# Altium footprint library PCB AMS625.PcbLib: 27 footprints (part 1 of 2)
Each footprint in its own frame and in the unit in brackets; x right, y up, seen from the top. Pads: shape width x height; smd on the part's side, far side on the other; paste and mask are expansions set on the pad; w line width, h text height; cw(c..) or ccw(c..) is an arc to the next point about the centre after c.
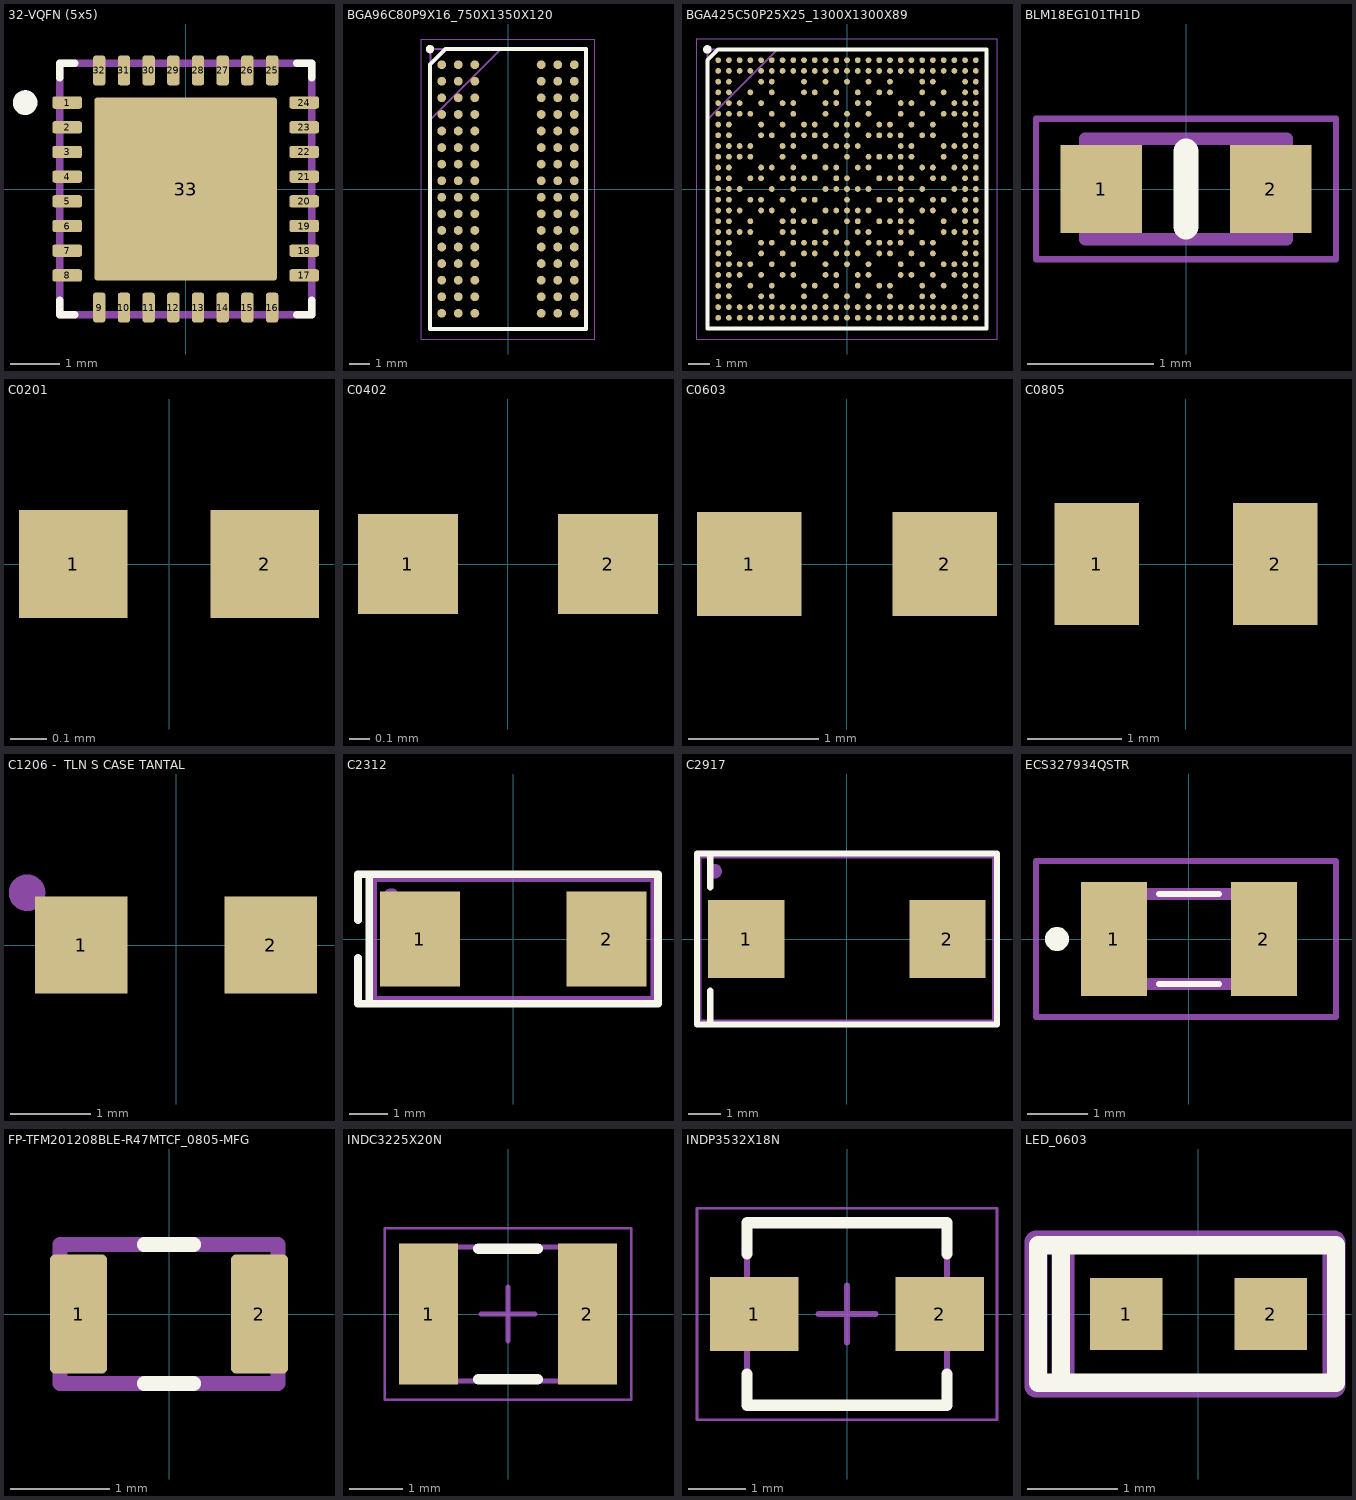
[diagram p0: the footprints below, top view; thin cyan lines are the x and y axes]

## 32-VQFN (5x5) [mm]
pads (33):
  rrect40% 0.6x0.25 smd paste+0 mask+0: 1(-2.4,1.75) 2(-2.4,1.25) 3(-2.4,0.75) 4(-2.4,0.25) 5(-2.4,-0.25) 6(-2.4,-0.75) 7(-2.4,-1.25) 8(-2.4,-1.75) 17(2.4,-1.75) 18(2.4,-1.25) 19(2.4,-0.75) 20(2.4,-0.25) 21(2.4,0.25) 22(2.4,0.75) 23(2.4,1.25) 24(2.4,1.75)
  rrect40% 0.25x0.6 smd paste+0 mask+0: 9(-1.75,-2.4) 10(-1.25,-2.4) 11(-0.75,-2.4) 12(-0.25,-2.4) 13(0.25,-2.4) 14(0.75,-2.4) 15(1.25,-2.4) 16(1.75,-2.4) 25(1.75,2.4) 26(1.25,2.4) 27(0.75,2.4) 28(0.25,2.4) 29(-0.25,2.4) 30(-0.75,2.4) 31(-1.25,2.4) 32(-1.75,2.4)
  rrect3% 3.7x3.7 smd paste-1000 mask+0: 33(0,0)
Top Overlay:
  circle w0.25: c-3.25,1.75 r0.125
  lines w0.15: -2.55,-2.25 -2.55,-2.55 -2.25,-2.55 ; -2.55,2.25 -2.55,2.55 -2.25,2.55 ; 2.25,-2.55 2.55,-2.55 2.55,-2.25 ; 2.25,2.55 2.55,2.55 2.55,2.25
Top Paste:
  drawing of 9 lines, arcs and shapes, not listed
Mechanical 13:
  lines w0.15: -2.55,-2.55 -2.55,2.55 2.55,2.55 2.55,-2.55 -2.55,-2.55
Mechanical 29:
  text ".Designator" at -3.556,-0.381 h1.52
3D body "IC_TPS6521901RHBR_VQFN32.STEP": height 1, standoff 0, extent -2.503,-2.503 2.503,2.503

## BGA96C80P9X16_750X1350X120 [mm]
pads (96):
  round 0.426 smd mask+0.102: A1(-3.2,6) A2(-2.4,6) A3(-1.6,6) A7(1.6,6) A8(2.4,6) A9(3.2,6) B1(-3.2,5.2) B2(-2.4,5.2) B3(-1.6,5.2) B7(1.6,5.2) B8(2.4,5.2) B9(3.2,5.2) C1(-3.2,4.4) C2(-2.4,4.4) C3(-1.6,4.4) C7(1.6,4.4) C8(2.4,4.4) C9(3.2,4.4) D1(-3.2,3.6) D2(-2.4,3.6) D3(-1.6,3.6) D7(1.6,3.6) D8(2.4,3.6) D9(3.2,3.6) E1(-3.2,2.8) E2(-2.4,2.8) E3(-1.6,2.8) E7(1.6,2.8) E8(2.4,2.8) E9(3.2,2.8) F1(-3.2,2) F2(-2.4,2) F3(-1.6,2) F7(1.6,2) F8(2.4,2) F9(3.2,2) G1(-3.2,1.2) G2(-2.4,1.2) G3(-1.6,1.2) G7(1.6,1.2) G8(2.4,1.2) G9(3.2,1.2) H1(-3.2,0.4) H2(-2.4,0.4) H3(-1.6,0.4) H7(1.6,0.4) H8(2.4,0.4) H9(3.2,0.4) J1(-3.2,-0.4) J2(-2.4,-0.4) J3(-1.6,-0.4) J7(1.6,-0.4) J8(2.4,-0.4) J9(3.2,-0.4) K1(-3.2,-1.2) K2(-2.4,-1.2) K3(-1.6,-1.2) K7(1.6,-1.2) K8(2.4,-1.2) K9(3.2,-1.2) L1(-3.2,-2) L2(-2.4,-2) L3(-1.6,-2) L7(1.6,-2) L8(2.4,-2) L9(3.2,-2) M1(-3.2,-2.8) M2(-2.4,-2.8) M3(-1.6,-2.8) M7(1.6,-2.8) M8(2.4,-2.8) M9(3.2,-2.8) N1(-3.2,-3.6) N2(-2.4,-3.6) N3(-1.6,-3.6) N7(1.6,-3.6) N8(2.4,-3.6) N9(3.2,-3.6) P1(-3.2,-4.4) P2(-2.4,-4.4) P3(-1.6,-4.4) P7(1.6,-4.4) P8(2.4,-4.4) P9(3.2,-4.4) R1(-3.2,-5.2) R2(-2.4,-5.2) R3(-1.6,-5.2) R7(1.6,-5.2) R8(2.4,-5.2) R9(3.2,-5.2) T1(-3.2,-6) T2(-2.4,-6) T3(-1.6,-6) T7(1.6,-6) T8(2.4,-6) T9(3.2,-6)
Top Overlay:
  circle w0.2: c-3.763,6.75 r0.1
  lines w0.2: -3.763,-6.75 3.763,-6.75 3.763,6.75 -3.013,6.75 -3.763,6 -3.763,-6.75
Mechanical 13:
  lines w0.1: -3.75,3.35 -0.35,6.75 ; -3.75,-6.75 3.75,-6.75 3.75,6.75 -3.75,6.75 -3.75,-6.75
Mechanical 15:
  lines w0.05: -4.191,-7.239 4.191,-7.239 4.191,7.239 -4.191,7.239 -4.191,-7.239
Mechanical 29:
  text ".Designator" at -3.556,-0.381 h1.52
3D body "MT40A512M16LY-075_E.stp": height 1.2, standoff 0, extent -3.75,-6.75 3.75,6.75

## BGA425C50P25X25_1300X1300X89 [mm]
pads (425):
  round 0.27 smd mask+0.05: A1(-6,6) A2(-5.5,6) A3(-5,6) A4(-4.5,6) A5(-4,6) A6(-3.5,6) A7(-3,6) A8(-2.5,6) A9(-2,6) A10(-1.5,6) A11(-1,6) A12(-0.5,6) A13(0,6) A14(0.5,6) A15(1,6) A16(1.5,6) A17(2,6) A18(2.5,6) A19(3,6) A20(3.5,6) A21(4,6) A22(4.5,6) A23(5,6) A24(5.5,6) A25(6,6) AA1(-6,-4) AA2(-5.5,-4) AA3(-5,-4) AA5(-4,-4) AA7(-3,-4) AA8(-2.5,-4) AA11(-1,-4) AA12(-0.5,-4) AA14(0.5,-4) AA15(1,-4) AA18(2.5,-4) AA19(3,-4) AA21(4,-4) AA23(5,-4) AA24(5.5,-4) AA25(6,-4) AB1(-6,-4.5) AB2(-5.5,-4.5) AB4(-4.5,-4.5) AB6(-3.5,-4.5) AB9(-2,-4.5) AB10(-1.5,-4.5) AB12(-0.5,-4.5) AB14(0.5,-4.5) AB16(1.5,-4.5) AB17(2,-4.5) AB20(3.5,-4.5) AB22(4.5,-4.5) AB24(5.5,-4.5) AB25(6,-4.5) AC1(-6,-5) AC2(-5.5,-5) AC5(-4,-5) AC6(-3.5,-5) AC9(-2,-5) AC11(-1,-5) AC13(0,-5) AC15(1,-5) AC17(2,-5) AC20(3.5,-5) AC21(4,-5) AC24(5.5,-5) AC25(6,-5) AD1(-6,-5.5) AD2(-5.5,-5.5) AD3(-5,-5.5) AD4(-4.5,-5.5) AD5(-4,-5.5) AD6(-3.5,-5.5) AD7(-3,-5.5) AD8(-2.5,-5.5) AD9(-2,-5.5) AD10(-1.5,-5.5) AD11(-1,-5.5) AD12(-0.5,-5.5) AD13(0,-5.5) AD14(0.5,-5.5) AD15(1,-5.5) AD16(1.5,-5.5) AD17(2,-5.5) AD18(2.5,-5.5) AD19(3,-5.5) AD20(3.5,-5.5) AD21(4,-5.5) AD22(4.5,-5.5) AD23(5,-5.5) AD24(5.5,-5.5) AD25(6,-5.5) AE1(-6,-6) AE2(-5.5,-6) AE3(-5,-6) AE4(-4.5,-6) AE5(-4,-6) AE6(-3.5,-6) AE7(-3,-6) AE8(-2.5,-6) AE9(-2,-6) AE10(-1.5,-6) AE11(-1,-6) AE12(-0.5,-6) AE13(0,-6) AE14(0.5,-6) AE15(1,-6) AE16(1.5,-6) AE17(2,-6) AE18(2.5,-6) AE19(3,-6) AE20(3.5,-6) AE21(4,-6) AE22(4.5,-6) AE23(5,-6) AE24(5.5,-6) AE25(6,-6) B1(-6,5.5) B2(-5.5,5.5) B3(-5,5.5) B4(-4.5,5.5) B5(-4,5.5) B6(-3.5,5.5) B7(-3,5.5) B8(-2.5,5.5) B9(-2,5.5) B10(-1.5,5.5) B11(-1,5.5) B12(-0.5,5.5) B13(0,5.5) B14(0.5,5.5) B15(1,5.5) B16(1.5,5.5) B17(2,5.5) B18(2.5,5.5) B19(3,5.5) B20(3.5,5.5) B21(4,5.5) B22(4.5,5.5) B23(5,5.5) B24(5.5,5.5) B25(6,5.5) C1(-6,5) C2(-5.5,5) C5(-4,5) C6(-3.5,5) C9(-2,5) C11(-1,5) C13(0,5) C15(1,5) C17(2,5) C20(3.5,5) C21(4,5) C24(5.5,5) C25(6,5) D1(-6,4.5) D2(-5.5,4.5) D4(-4.5,4.5) D6(-3.5,4.5) D9(-2,4.5) D10(-1.5,4.5) D12(-0.5,4.5) D14(0.5,4.5) D16(1.5,4.5) D17(2,4.5) D20(3.5,4.5) D22(4.5,4.5) D24(5.5,4.5) D25(6,4.5) E1(-6,4) E2(-5.5,4) E3(-5,4) E5(-4,4) E7(-3,4) E8(-2.5,4) E11(-1,4) E12(-0.5,4) E14(0.5,4) E15(1,4) E18(2.5,4) E19(3,4) E21(4,4) E23(5,4) E24(5.5,4) E25(6,4) F1(-6,3.5) F2(-5.5,3.5) F3(-5,3.5) F4(-4.5,3.5) F6(-3.5,3.5) F8(-2.5,3.5) F11(-1,3.5) F13(0,3.5) F15(1,3.5) F18(2.5,3.5) F20(3.5,3.5) F22(4.5,3.5) F23(5,3.5) F24(5.5,3.5) F25(6,3.5) G1(-6,3) G2(-5.5,3) G5(-4,3) G7(-3,3) G9(-2,3) G10(-1.5,3) G12(-0.5,3) G13(0,3) G14(0.5,3) G16(1.5,3) G17(2,3) G19(3,3) G21(4,3) G24(5.5,3) G25(6,3) H1(-6,2.5) H2(-5.5,2.5) H5(-4,2.5) H6(-3.5,2.5) H8(-2.5,2.5) H9(-2,2.5) H10(-1.5,2.5) H11(-1,2.5) H13(0,2.5) H15(1,2.5) H16(1.5,2.5) H17(2,2.5) H18(2.5,2.5) H20(3.5,2.5) H21(4,2.5) H24(5.5,2.5) H25(6,2.5) J1(-6,2) J2(-5.5,2) J3(-5,2) J4(-4.5,2) J7(-3,2) J8(-2.5,2) J11(-1,2) J12(-0.5,2) J13(0,2) J14(0.5,2) J18(2.5,2) J19(3,2) J22(4.5,2) J23(5,2) J24(5.5,2) J25(6,2) K1(-6,1.5) K2(-5.5,1.5) K3(-5,1.5) K4(-4.5,1.5) K7(-3,1.5) K9(-2,1.5) K10(-1.5,1.5) K13(0,1.5) K15(1,1.5) K16(1.5,1.5) K17(2,1.5) K18(2.5,1.5) K19(3,1.5) K22(4.5,1.5) K24(5.5,1.5) K25(6,1.5) L1(-6,1) L2(-5.5,1) L5(-4,1) L6(-3.5,1) L8(-2.5,1) L11(-1,1) L12(-0.5,1) L14(0.5,1) L15(1,1) L18(2.5,1) L20(3.5,1) L21(4,1) L23(5,1) L24(5.5,1) L25(6,1) M1(-6,0.5) M2(-5.5,0.5) M4(-4.5,0.5) M5(-4,0.5) M7(-3,0.5) M8(-2.5,0.5) M9(-2,0.5) M10(-1.5,0.5) M12(-0.5,0.5) M13(0,0.5) M16(1.5,0.5) M17(2,0.5) M18(2.5,0.5) M19(3,0.5) M21(4,0.5) M22(4.5,0.5) M24(5.5,0.5) M25(6,0.5) N1(-6,0) N2(-5.5,0) N3(-5,0) N6(-3.5,0) N8(-2.5,0) N11(-1,0) N12(-0.5,0) N13(0,0) N14(0.5,0) N15(1,0) N18(2.5,0) N20(3.5,0) N23(5,0) N24(5.5,0) N25(6,0) P1(-6,-0.5) P2(-5.5,-0.5) P4(-4.5,-0.5) P5(-4,-0.5) P7(-3,-0.5) P9(-2,-0.5) P10(-1.5,-0.5) P13(0,-0.5) P16(1.5,-0.5) P17(2,-0.5) P18(2.5,-0.5) P19(3,-0.5) P21(4,-0.5) P22(4.5,-0.5) P24(5.5,-0.5) P25(6,-0.5) R1(-6,-1) R2(-5.5,-1) R3(-5,-1) R5(-4,-1) R6(-3.5,-1) R8(-2.5,-1) R11(-1,-1) R12(-0.5,-1) R13(0,-1) R14(0.5,-1) R15(1,-1) R18(2.5,-1) R20(3.5,-1) R21(4,-1) R23(5,-1) R24(5.5,-1) R25(6,-1) T1(-6,-1.5) T2(-5.5,-1.5) T4(-4.5,-1.5) T7(-3,-1.5) T8(-2.5,-1.5) T9(-2,-1.5) T10(-1.5,-1.5) T13(0,-1.5) T14(0.5,-1.5) T16(1.5,-1.5) T17(2,-1.5) T18(2.5,-1.5) T19(3,-1.5) T22(4.5,-1.5) T24(5.5,-1.5) T25(6,-1.5) U1(-6,-2) U2(-5.5,-2) U3(-5,-2) U4(-4.5,-2) U7(-3,-2) U8(-2.5,-2) U11(-1,-2) U12(-0.5,-2) U14(0.5,-2) U15(1,-2) U18(2.5,-2) U19(3,-2) U22(4.5,-2) U23(5,-2) U24(5.5,-2) U25(6,-2) V1(-6,-2.5) V2(-5.5,-2.5) V5(-4,-2.5) V6(-3.5,-2.5) V8(-2.5,-2.5) V9(-2,-2.5) V10(-1.5,-2.5) V11(-1,-2.5) V13(0,-2.5) V15(1,-2.5) V16(1.5,-2.5) V17(2,-2.5) V18(2.5,-2.5) V20(3.5,-2.5) V21(4,-2.5) V24(5.5,-2.5) V25(6,-2.5) W1(-6,-3) W2(-5.5,-3) W5(-4,-3) W7(-3,-3) W9(-2,-3) W10(-1.5,-3) W12(-0.5,-3) W13(0,-3) W14(0.5,-3) W16(1.5,-3) W17(2,-3) W19(3,-3) W21(4,-3) W24(5.5,-3) W25(6,-3) Y1(-6,-3.5) Y2(-5.5,-3.5) Y3(-5,-3.5) Y4(-4.5,-3.5) Y6(-3.5,-3.5) Y8(-2.5,-3.5) Y11(-1,-3.5) Y13(0,-3.5) Y15(1,-3.5) Y18(2.5,-3.5) Y20(3.5,-3.5) Y22(4.5,-3.5) Y23(5,-3.5) Y24(5.5,-3.5) Y25(6,-3.5)
Top Overlay:
  circle w0.2: c-6.5,6.5 r0.1
  lines w0.2: -6.5,-6.5 6.5,-6.5 6.5,6.5 -6,6.5 -6.5,6 -6.5,-6.5
Mechanical 13:
  lines w0.1: -6.5,3.225 -3.225,6.5 ; -6.5,-6.5 6.5,-6.5 6.5,6.5 -6.5,6.5 -6.5,-6.5
Mechanical 15:
  lines w0.05: -6.985,-6.985 6.985,-6.985 6.985,6.985 -6.985,6.985 -6.985,-6.985
Mechanical 29:
  text ".Designator" at -3.556,-0.381 h1.52
3D body "AM6254ATCGGAALW.stp": height 0.89, standoff 0, extent -6.5,-6.5 6.5,6.5

## BLM18EG101TH1D [mm]
pads (2):
  rect 0.65x0.7 smd: 1(-0.675,0) 2(0.675,0)
Top Overlay:
  lines w0.2: 0,-0.3 0,0.3
Mechanical 13:
  lines w0.1: -0.8,-0.4 0.8,-0.4 0.8,0.4 -0.8,0.4 -0.8,-0.4
Mechanical 15:
  lines w0.05: -1.194,-0.559 1.194,-0.559 1.194,0.559 -1.194,0.559 -1.194,-0.559
Mechanical 29:
  text ".Designator" at -2.286,-0.254 h1
3D body "BLM18SG260TN1D.stp": height 0.5, standoff 0, extent -0.8,-0.4 0.8,0.4

## C0201 [mm]
pads (2):
  rect 0.3x0.3 smd mask+0.04: 1(-0.265,0) 2(0.265,0)
Mechanical 29:
  text ".Designator" at -2.286,-0.254 h1
3D body "C0201.step": height 0.3, standoff 0, extent -0.3,-0.15 0.3,0.15

## C0402 [mm]
pads (2):
  rect 0.5x0.5 smd: 1(-0.5,0) 2(0.5,0)
Mechanical 29:
  text ".Designator" at -2.35,-0.25 h1
3D body "CAPC1005X56N EIA 0402.step": height 0.56, standoff 0, extent -0.5,-0.25 0.5,0.25

## C0603 [mm]
pads (2):
  rect 0.8x0.8 smd: 1(-0.75,0) 2(0.75,0)
Mechanical 29:
  text ".Designator" at -2.35,-0.26 h1
3D body "C0603.step": height 0.79, standoff 0, extent -0.8,-0.425 0.8,0.435
3D body "C0603.step": height 0.95, standoff 0.15, extent -0.8,-0.425 0.8,0.435

## C0805 [mm]
pads (2):
  rect 0.9x1.3 smd: 1(-0.95,0) 2(0.95,0)
Mechanical 29:
  text ".Designator" at -2.28,-0.27 h1
3D body "CAPC2012X95N EIA 0805.step": height 1.5, standoff 0.55, extent -1,-0.6 1,0.6
3D body "CAPC2012X95N EIA 0805.step": height 0.95, standoff 0, extent -1,-0.6 1,0.6

## C1206 -  TLN S CASE TANTAL [mm]
pads (2):
  rect 1.15x1.2 smd: 1(-1.175,0) 2(1.175,0)
Mechanical 16:
  circle w0.254: c-1.85,0.65 r0.1
Mechanical 29:
  text ".Designator" at -7.05,-0.72 h3
3D body: height 1.2, standoff 0, extent -1.6,-0.8 1.6,0.8
3D body: height 1.21, standoff 1.2, extent -1.6,-0.8 -0.9,0.8

## C2312 [mm]
pads (2):
  rect 2.1x2.5 smd mask+0.09: 1(-2.45,0) 2(2.45,0)
Top Overlay:
  lines w0.2: -4.075,-0.5 -4.075,-1.7 3.8,-1.7 3.8,1.7 -4.075,1.7 -4.075,0.5 ; -3.775,-1.7 -3.775,1.7
Mechanical 16:
  circle w0.254: c-3.2,1.1 r0.1
  lines w0.2: -3.675,-1.6 -3.675,1.6 3.7,1.6 3.7,-1.6 -3.675,-1.6
Mechanical 29:
  text ".Designator" at -6.97,-0.72 h3
3D body "Tantalum Capacitor Case C.STEP": height 2.68, standoff -0.01, extent -3.093,-1.605 3.093,1.6
3D body: height 2.7, standoff 2.6, extent -2.4,-1.5 2.9,1.5

## C2917 [mm]
pads (2):
  rect 2.37x2.43 smd: 1(-3.12,0) 2(3.12,0)
Top Overlay:
  lines w0.2: -4.24,-2.65 -4.24,-1.6 ; -4.24,1.6 -4.24,2.65 ; -4.645,-2.65 -4.645,2.65 4.655,2.65 4.655,-2.65 -4.645,-2.65
Mechanical 16:
  circle w0.254: c-4.1,2.1 r0.1
  lines w0.2: -4.6,-2.6 4.6,-2.6 4.6,2.6 -4.6,2.6 -4.6,-2.6
Mechanical 29:
  text ".Designator" at -7.04,-0.7 h3
3D body "CAP_TANT_7343-31.step": height 3.1, standoff 0, extent -3.795,-2.3 3.805,2.3

## ECS327934QSTR [mm]
pads (2):
  rect 1.1x1.9 smd: 1(-1.25,0) 2(1.25,0)
Top Overlay:
  lines w0.1: -0.5,-0.75 0.5,-0.75 ; -0.5,0.75 0.5,0.75
  lines w0.2: -2.2,-0.1 ccw(c-2.2,0) -2.2,0.1 ccw(c-2.2,0) -2.2,-0.1
Mechanical 13:
  lines w0.2: -1.6,-0.75 1.6,-0.75 1.6,0.75 -1.6,0.75 -1.6,-0.75
Mechanical 15:
  lines w0.1: -2.55,-1.3 2.45,-1.3 2.45,1.3 -2.55,1.3 -2.55,-1.3
Mechanical 29:
  text ".Designator" at -7.05,-0.72 h3
3D body "ECS-.327-9-34QCS-TR.stp": height 0.9, standoff 0, extent -1.64,-0.75 1.56,0.75

## FP-TFM201208BLE-R47MTCF_0805-MFG [mm]
pads (2):
  rrect17% 0.575x1.2 smd paste+0 mask+0: 1(-0.913,0) 2(0.913,0)
Top Overlay:
  lines w0.15: -0.25,-0.7 0.25,-0.7 ; -0.25,0.7 0.25,0.7
Mechanical 13:
  lines w0.15: -1.1,-0.7 1.1,-0.7 1.1,0.7 -1.1,0.7 -1.1,-0.7
Mechanical 29:
  text ".Designator" at -7.05,-0.72 h3
3D body "Ind_TFM201208BLE-R47MTCF_0805.STEP": height 0.8, standoff 0, extent -1,-0.6 1,0.6

## INDC3225X20N [mm] "Chip Inductor, 2-Leads, Body 3.20x2.50mm, IPC Medium Density"
height 2
pads (2):
  rect 1.1x2.64 smd: 1(-1.48,0) 2(1.48,0)
Top Overlay:
  lines w0.2: -0.55,-1.22 0.55,-1.22 ; -0.55,1.22 0.55,1.22
Mechanical 13:
  lines w0.1: -1.6,-1.25 -1.6,1.25 1.6,1.25 1.6,-1.25 -1.6,-1.25
Mechanical 15:
  lines w0.05: -2.3,-1.6 -2.3,1.6 2.3,1.6 2.3,-1.6 -2.3,-1.6
  lines w0.1: -0.5,0 0.5,0 ; 0,-0.5 0,0.5
Mechanical 29:
  text ".Designator" at -7.05,-0.593 h3
3D body "INDC3225X20N.step": height 2, standoff 0, extent -1.6,-1.25 1.6,1.25

## INDP3532X18N [mm] "Precision Wire Wound Inductor, 2-Leads, Body 3.50x3.20mm, IPC Medium Density"
height 1.8
pads (2):
  rect 1.55x1.3 smd: 1(-1.625,0) 2(1.625,0)
Top Overlay:
  lines w0.2: -1.75,-1.05 -1.75,-1.6 1.75,-1.6 1.75,-1.05 ; -1.75,1.05 -1.75,1.6 1.75,1.6 1.75,1.05
Mechanical 13:
  lines w0.1: -1.75,-1.6 1.75,-1.6 1.75,1.6 -1.75,1.6 -1.75,-1.6
Mechanical 15:
  lines w0.05: -2.625,-1.85 2.625,-1.85 2.625,1.85 -2.625,1.85 -2.625,-1.85
  lines w0.1: -0.5,0 0.5,0 ; 0,-0.5 0,0.5
Mechanical 29:
  text ".Designator" at -7.05,-0.593 h3
3D body "INDP3532X18N.step": height 1.9, standoff 0, extent -1.85,-1.6 1.85,1.6

## LED_0603 [mm]
pads (2):
  rect 0.8x0.8 smd: 1(-0.8,0) 2(0.8,0)
Top Overlay:
  lines w0.2: -1.524,-0.762 -1.524,0.762 ; -1.778,-0.762 1.524,-0.762 1.524,0.762 -1.778,0.762 -1.778,-0.762
Mechanical 16:
  lines w0.254: -1.5,-0.8 -1.5,0.8 ; -1.8,-0.8 -1.8,0.8 1.5,0.8 1.5,-0.8 -1.8,-0.8
Mechanical 29:
  text ".Designator" at 0.5,0.3 h0.6
3D body "LED SMD 0603.step": height 0.65, standoff 0, extent -0.85,-0.4 0.85,0.4
3D body: height 0.66, standoff 0.5, extent -0.2,-0.2 0.2,0.2